# EAGLE library part LTC4440_HI-SIDE_NMOS_GATE_DRIVER (library will)
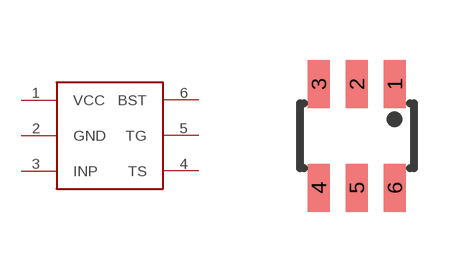
[diagram p6: symbol with the pads of SOT23-6; footprint SOT23-6]

Designator prefix -

## LTC4440_HI-SIDE_NMOS_GATE_DRIVER  [SOT23-6]
1  VCC
2  GND
3  INP
4  TS
5  TG
6  BST

## Footprint SOT23-6 (pad centres in mm)
smd 0.55 x 1.2: 1 0.95,1.3; 2 0,1.3; 3 -0.95,1.3; 4 -0.95,-1.3; 5 0,-1.3; 6 0.95,-1.3